# EAGLE library part NX3L4051PW (library Robot_MT)
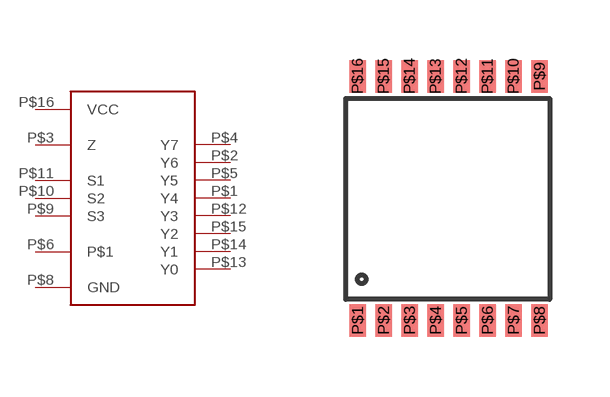
[diagram p2: symbol with the pads of SOT403; footprint SOT403]

Designator prefix -

## NX3L4051PW  [SOT403]
P$1  Y4
P$2  Y6
P$3  Z
P$4  Y7
P$5  Y5
P$6  P$1
P$8  GND
P$9  S3
P$10  S2
P$11  S1
P$12  Y3
P$13  Y0
P$14  Y1
P$15  Y2
P$16  VCC

## Footprint SOT403 (pad centres in mm)
smd 0.406 x 0.813: P$1 0,-0.127; P$2 0.65,-0.127; P$3 1.3,-0.127; P$4 1.95,-0.127; P$5 2.6,-0.127; P$6 3.25,-0.127; P$7 3.9,-0.127; P$8 4.55,-0.127; P$9 4.55,5.977; P$10 3.9,5.977; P$11 3.25,5.977; P$12 2.6,5.977; P$13 1.95,5.977; P$14 1.3,5.977; P$15 0.65,5.977; P$16 0,5.977